# EAGLE library part AOZ128 (library ruark2)
Buck Switching Regulator IC Positive Adjustable 0.8V 1 Output 4A 8-SOIC (0.154", 3.90mm Width) Exposed Pad
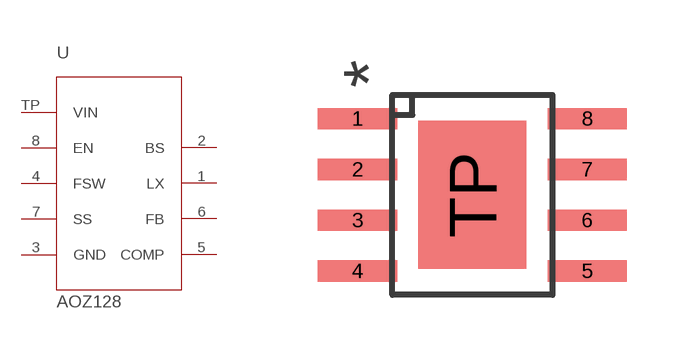
[diagram p46: symbol with the pads of SOIC8_TP; footprint SOIC8_TP]

Designator prefix U

## AOZ128 (PARTNO: 785-1689-1-ND)  [SOIC8_TP]
1  LX
2  BS
3  GND
4  FSW
5  COMP
6  FB
7  SS
8  EN
TP  VIN

## Footprint SOIC8_TP (pad centres in mm)
smd 1.981 x 0.533: 1 -2.87,1.905; 2 -2.87,0.635; 3 -2.87,-0.635; 4 -2.87,-1.905; 5 2.87,-1.905; 6 2.87,-0.635; 7 2.87,0.635; 8 2.87,1.905
smd 2.7 x 3.7: TP 0,0